# Altium integrated library GeneralComponents.IntLib: 8 symbols
Pins are listed as number, name and electrical type; pins without a type are passive.

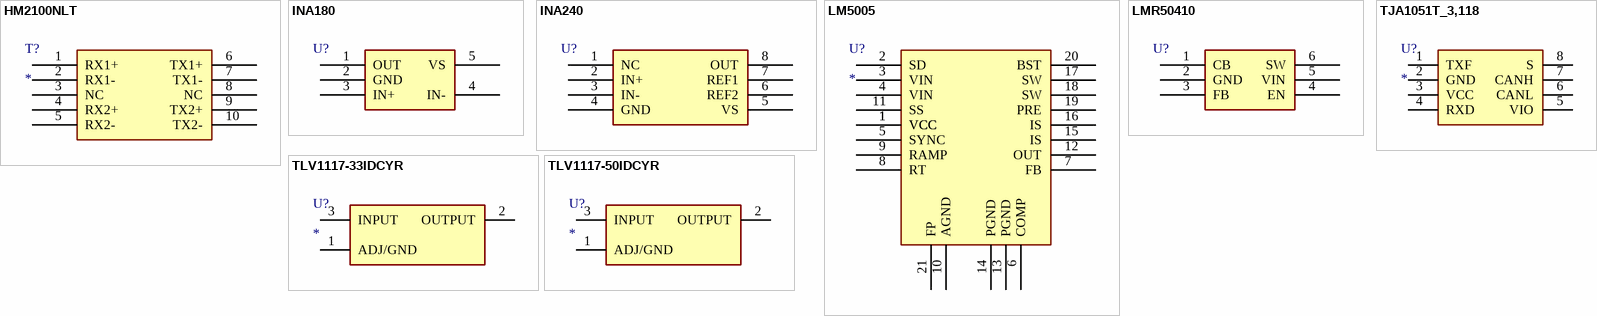
[diagram p0: symbols HM2100NLT to TLV1117-50IDCYR]

## HM2100NLT
designator T?
Pulse Transformer 1:1 Surface Mount 150µH, 450µH; Manufacturer: Pulse Electronics; Manufacturer Part Number: HM2100NLT; Datasheet: https://productfinder.pulseeng.com/doc_type/WEB301/doc_num/HM2100NL/doc_part/HM2100NL.pdf; Supplier Part Number: 1840-1032-1-ND; Supplier: Digikey
footprint HM2100NLT
pins: 1 RX1+, 2 RX1-, 3 NC, 4 RX2+, 5 RX2-, 6 TX1+, 7 TX1-, 8 NC, 9 TX2+, 10 TX2-

## INA180
designator U?
0V to 26V Current Sense Amplifier; Manufacturer: Texas Instruments; Manufacturer Part Number: INA180A2IDBVR; Datasheet: https://www.ti.com/lit/ds/symlink/ina180.pdf; Supplier Part Number: 296-47653-1-ND; Supplier: Digikey
footprint INA180 (SOT23, 5-Leads, Body 2.80x2.80mm, Pitch 0.95mm, IPC Medium Density)
pins: 1 OUT, 2 GND, 3 IN+, 4 IN-, 5 VS

## INA240
designator U?
-4V to 80V Current Sense Amplifier; Manufacturer: Texas Instruments; Manufacturer Part Number: INA240A2DR; Datasheet: https://www.ti.com/lit/ds/sbos662b/sbos662b.pdf; Supplier Part Number: 296-51173-1-ND; Supplier: Digikey
footprint INA240 (SOIC, 8-Leads, Body 4.91x3.90mm, Pitch 1.27mm, IPC Medium Density)
pins: 1 NC, 2 IN+, 3 IN-, 4 GND (power), 5 VS (power), 6 REF2, 7 REF1, 8 OUT

## LM5005
designator U?
7V to 75V 2.5A, Buck Converter; Manufacturer: Texas Instruments; Manufacturer Part Number: LM5005MHX/NOPB; Datasheet: https://www.ti.com/lit/ds/symlink/lm5005.pdf?HQS=TI-null-null-digikeymode-df-pf-null-wwe&ts=1606456124909; Supplier Part Number: 926-LM5005MHX/NOPB; Supplier: Mouser
footprint LM5005 (20-PowerTSSOP (0.173"", 4.40mm Width))
pins: 1 VCC, 1 VCC, 2 SD, 3 VIN, 4 VIN, 5 SYNC, 6 COMP, 7 FB, 8 RT, 9 RAMP, 10 AGND, 11 SS, 12 OUT, 13 PGND, 14 PGND, 15 IS, 16 IS, 17 SW, 18 SW, 19 PRE, 20 BST, 21 FP

## LMR50410
designator U?
4V to 36V 1A, Buck Converter; Manufacturer: Texas Instruments; Manufacturer Part Number: LMR50410YQDBVRQ1; Datasheet: https://www.ti.com/lit/ds/symlink/lmr50410-q1.pdf; Supplier Part Number: LMR50410YQDBVRQ1CT-ND; Supplier: Digikey
footprint LMR50410 (SOT23, 6-Leads, Body 2.90x2.80mm, Pitch 0.95mm, IPC Medium Density)
pins: 1 CB, 2 GND (power), 3 FB, 4 EN, 5 VIN (power), 6 SW

## TJA1051T_3,118
designator U?
CAN Transceiver IC 4.5V-5.5V 250ns; Manufacturer: NXP; Manufacturer Part Number: TJA1051T/3,118; Datasheet: http://www.nxp.com/docs/en/data-sheet/TJA1051.pdf; Supplier Part Number: 568-8684-1-ND; Supplier: Digikey
footprint TJA1051T/3,118 (SOIC127P600X175-8N)
pins: 1 TXF, 2 GND, 3 VCC, 4 RXD, 5 VIO, 6 CANL, 7 CANH, 8 S

## TLV1117-33IDCYR
designator U?
Linear Voltage Regulator IC 3.3V 800MA SOT223-4; Manufacturer: Texas Instruments; Manufacturer Part Number: TLV1117-33IDCYR; Datasheet: http://www.ti.com/lit/ds/symlink/tlv1117.pdf?HQS=TI-null-null-digikeymode-df-pf-null-wwe&ts=1590668900314; Supplier Part Number: 296-21112-1-ND; Supplier: Digikey
footprint TLV1117 (SOT230P700X180-4N)
pins: 1 ADJ/GND, 2 OUTPUT, 3 INPUT

## TLV1117-50IDCYR
designator U?
Linear Voltage Regulator IC 5V 800MA SOT223-4; Manufacturer: Texas Instruments; Manufacturer Part Number: TLV1117-50IDCYR; Datasheet: http://www.ti.com/lit/ds/symlink/tlv1117.pdf?HQS=TI-null-null-digikeymode-df-pf-null-wwe&ts=1590668900314; Supplier Part Number: 296-21115-1-ND; Supplier: Digikey
footprint TLV1117 (SOT230P700X180-4N)
pins: 1 ADJ/GND, 2 OUTPUT, 3 INPUT